# EAGLE library part V.SMILE_CONNECTOR (library RetroSpy_Technologies)
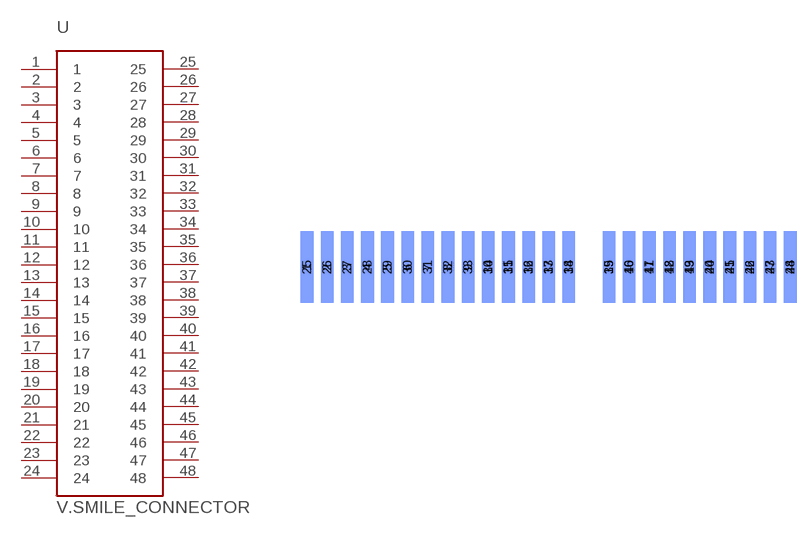
[diagram p0: symbol with the pads of V.SMILE_CONNECTOR; footprint V.SMILE_CONNECTOR]

Designator prefix -

## V.SMILE_CONNECTOR  [V.SMILE_CONNECTOR]
1  1
2  2
3  3
4  4
5  5
6  6
7  7
8  8
9  9
10  10
11  11
12  12
13  13
14  14
15  15
16  16
17  17
18  18
19  19
20  20
21  21
22  22
23  23
24  24
25  25
26  26
27  27
28  28
29  29
30  30
31  31
32  32
33  33
34  34
35  35
36  36
37  37
38  38
39  39
40  40
41  41
42  42
43  43
44  44
45  45
46  46
47  47
48  48

## Footprint V.SMILE_CONNECTOR (pad centres in mm)
smd 1.6 x 9: 1 -31.75,0; 2 -29.21,0; 3 -26.67,0; 4 -24.13,0; 5 -21.59,0; 6 -19.05,0; 7 -16.51,0; 8 -13.97,0; 9 -11.43,0; 10 -8.89,0; 11 -6.35,0; 12 -3.81,0; 13 -1.27,0; 14 1.27,0; 15 6.35,0; 16 8.89,0; 17 11.43,0; 18 13.97,0; 19 16.51,0; 20 19.05,0; 21 21.59,0; 22 24.13,0; 23 26.67,0; 24 29.21,0
smd 1.6 x 9 bottom: 25 -31.75,0; 26 -29.21,0; 27 -26.67,0; 28 -24.13,0; 29 -21.59,0; 30 -19.05,0; 31 -16.51,0; 32 -13.97,0; 33 -11.43,0; 34 -8.89,0; 35 -6.35,0; 36 -3.81,0; 37 -1.27,0; 38 1.27,0; 39 6.35,0; 40 8.89,0; 41 11.43,0; 42 13.97,0; 43 16.51,0; 44 19.05,0; 45 21.59,0; 46 24.13,0; 47 26.67,0; 48 29.21,0